# Altium integrated library HF115F.IntLib: 1 symbol
Pins are listed as number, name and electrical type; pins without a type are passive.

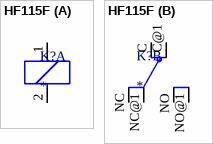
[diagram p0: symbol HF115F]

## HF115F
designator K?
Power Relay 24VDC 16A SPST(29mm 12.7mm 15.7mm) THT Automotive; MF: HONGFA; MP: HF115F; SnapEDA_Link: https://www.snapeda.com/parts/HF115F/Hongfa/view-part/?ref=snap; Package: None; Value: *; Check_prices: https://www.snapeda.com/parts/HF115F/Hongfa/view-part/?ref=eda
footprint HX
part A pins: 1, 2
part B pins: C, C@1 C1, NC, NC@1, NO, NO@1